# Altium footprint library Inductors.PcbLib: 8 footprints
Each footprint in its own frame and in the unit in brackets; x right, y up, seen from the top. Pads: shape width x height; smd on the part's side, far side on the other; paste and mask are expansions set on the pad; w line width, h text height; cw(c..) or ccw(c..) is an arc to the next point about the centre after c.
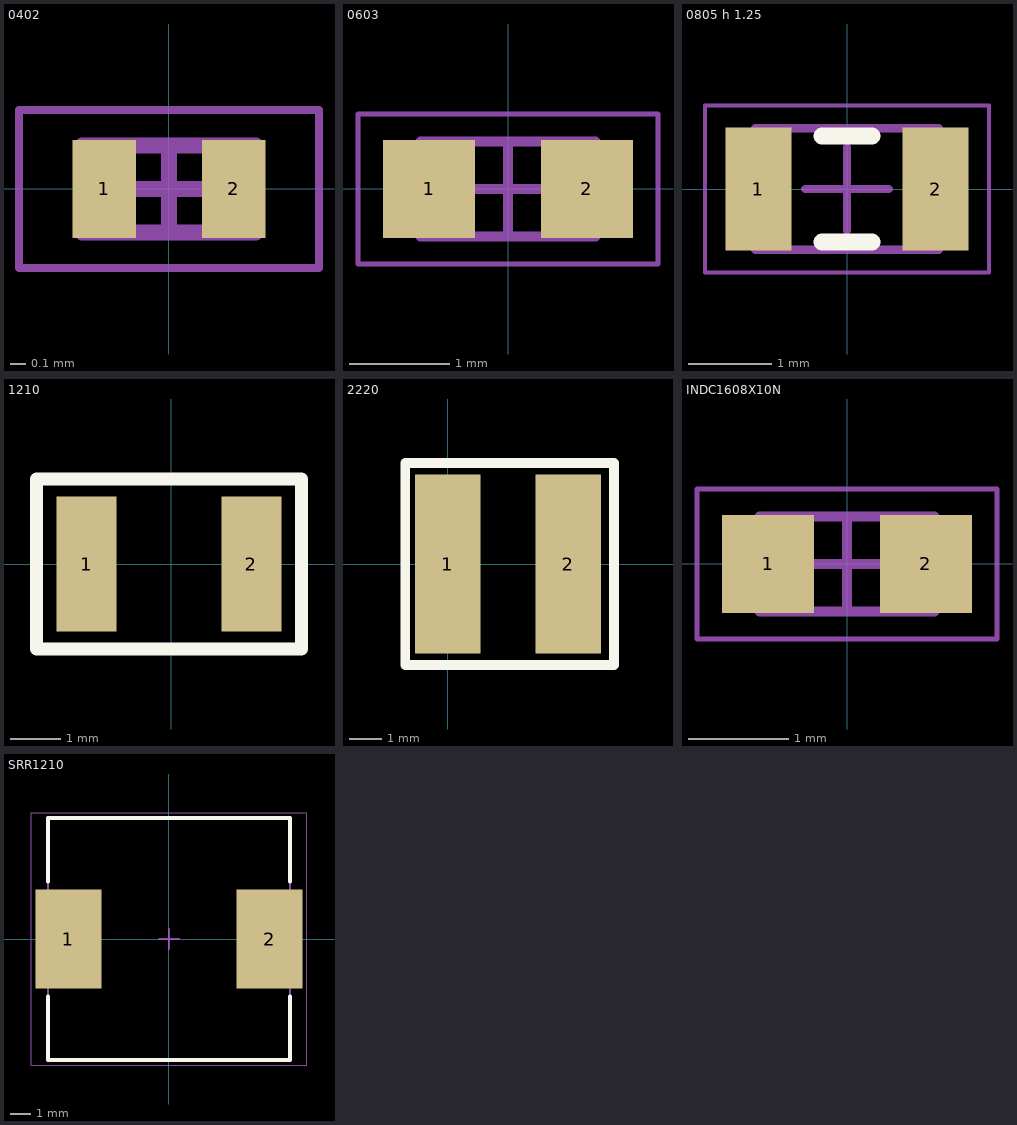
[diagram p0: the footprints below, top view; thin cyan lines are the x and y axes]

## 0402 [mm]
height 0.4
pads (2):
  rect 0.4x0.62 smd: 1(-0.41,0) 2(0.41,0)
Mechanical 13:
  lines w0.1: -0.55,-0.275 0.55,-0.275 0.55,0.275 -0.55,0.275 -0.55,-0.275
Mechanical 15:
  lines w0.05: -0.95,-0.5 0.95,-0.5 0.95,0.5 -0.95,0.5 -0.95,-0.5
  lines w0.1: -0.275,0 0.275,0 ; 0,-0.275 0,0.275
3D body "04021.step": height 0.4, standoff 0, extent -0.55,-0.275 0.55,0.275

## 0603 [mm] "Chip Inductor, 2-Leads, Body 1,60x0,80mm, IPC Medium Density"
height 0.95
pads (2):
  rect 0.92x0.98 smd: 1(-0.79,0) 2(0.79,0)
Mechanical 13:
  lines w0.1: -0.875,-0.475 0.875,-0.475 0.875,0.475 -0.875,0.475 -0.875,-0.475
Mechanical 15:
  lines w0.05: -1.5,-0.75 1.5,-0.75 1.5,0.75 -1.5,0.75 -1.5,-0.75
  lines w0.1: -0.475,0 0.475,0 ; 0,-0.475 0,0.475
3D body "0603.step": height 0.95, standoff 0, extent -0.875,-0.475 0.875,0.475

## 0805 h 1.25 [mm] "Chip Inductor, 2-Leads, Body 2,00x1,25mm, IPC Medium Density"
height 1.25
pads (2):
  rect 0.79x1.47 smd: 1(-1.06,0) 2(1.06,0)
Top Overlay:
  lines w0.2: -0.3,-0.635 0.3,-0.635 ; -0.3,0.635 0.3,0.635
Mechanical 13:
  lines w0.1: -1.1,-0.725 -1.1,0.725 1.1,0.725 1.1,-0.725 -1.1,-0.725
Mechanical 15:
  lines w0.05: -1.7,-1 -1.7,1 1.7,1 1.7,-1 -1.7,-1
  lines w0.1: -0.5,0 0.5,0 ; 0,-0.5 0,0.5
3D body "INDC2012X12N.step": height 1.25, standoff 0, extent -1.1,-0.725 1.1,0.725

## 1210 [mm]
pads (2):
  rect 1.2x2.7 smd: 1(-1.7,0) 2(1.6,0)
Top Overlay:
  lines w0.254: -2.7,-1.7 2.6,-1.7 2.6,1.7 -2.7,1.7 -2.7,-1.7
3D body: height 2.2, standoff 0, extent -1.6,-1.25 1.6,1.25

## 2220 [mm]
pads (2):
  rect 2x5.5 smd: 1(0,0) 2(3.7,0)
Top Overlay:
  lines w0.3: -1.3,-3.1 5.1,-3.1 5.1,3.1 -1.3,3.1 -1.3,-3.1
3D body: height 1, standoff 0, extent -0.7,-2.4 4.3,2.6
3D body: height 3.7, standoff 1, extent -0.5,-2.2 4.1,2.4
3D body: height 4.7, standoff 3.7, extent -0.7,-2.4 4.3,2.6

## INDC1608X10N [mm] "Chip Inductor, 2-Leads, Body 1,60x0,80mm, IPC Medium Density"
height 0.95
pads (2):
  rect 0.92x0.98 smd: 1(-0.79,0) 2(0.79,0)
Mechanical 13:
  lines w0.1: -0.875,-0.475 0.875,-0.475 0.875,0.475 -0.875,0.475 -0.875,-0.475
Mechanical 15:
  lines w0.05: -1.5,-0.75 1.5,-0.75 1.5,0.75 -1.5,0.75 -1.5,-0.75
  lines w0.1: -0.475,0 0.475,0 ; 0,-0.475 0,0.475
3D body "INDC1608X10N.step": height 0.95, standoff 0, extent -0.875,-0.475 0.875,0.475

## SRR1208 [mm]

## SRR1210 [mm] "Precision Wire Wound Inductor, 2-Leads, Body 11,75x11,75mm, IPC Medium Density"
height 10
pads (2):
  rect 3.25x4.9 smd: 1(-4.975,0) 2(4.975,0)
Top Overlay:
  lines w0.2: -6,-2.85 -6,-6 6,-6 6,-2.85 ; -6,2.85 -6,6 6,6 6,2.85
Mechanical 13:
  lines w0.1: -6,-6 -6,6 6,6 6,-6 -6,-6
Mechanical 15:
  lines w0.05: -6.825,-6.25 -6.825,6.25 6.825,6.25 6.825,-6.25 -6.825,-6.25
  lines w0.1: -0.5,0 0.5,0 ; 0,-0.5 0,0.5
3D body "INDP118118X100N.step": height 10.1, standoff 0, extent -5.975,-5.875 5.975,5.875